# Altium schematic symbol library Zasilanie.SchLib: 5 symbols
Pins are listed as number, name and electrical type; pins without a type are passive.

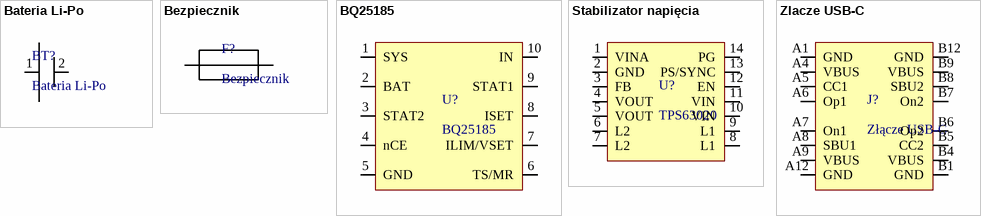
[diagram p0: symbols Bateria Li-Po to Zlacze USB-C]

## Bateria Li-Po
designator BT?  (net tie)
pins: 1 +, 2 -

## Bezpiecznik
designator F?
footprint 0603_FUSE
pins: 1, 2

## BQ25185
designator U?
footprint SON50P250X250X80-11N
pins: 1 SYS, 2 BAT, 3 STAT2, 4 nCE, 5 GND, 6 TS/MR, 7 ILIM/VSET, 8 ISET, 9 STAT1, 10 IN

## Stabilizator napięcia
designator U?, comment TPS63020
footprint IC_TPS63020DSJT
pins: 1 VINA, 2 GND, 3 FB, 4 VOUT, 5 VOUT, 6 L2, 7 L2, 8 L1, 9 L1, 10 VIN, 11 VIN, 12 EN, 13 PS/SYNC, 14 PG

## Zlacze USB-C
designator J?, comment Złącze USB-C
footprint HRO_TYPE-C-31-M-12
pins: A1 GND, A4 VBUS, A5 CC1, A6 Op1, A7 On1, A8 SBU1, A9 VBUS, A12 GND, B1 GND, B4 VBUS, B5 CC2, B6 Op2, B7 On2, B8 SBU2, B9 VBUS, B12 GND